# Altium footprint library AP2125N-3P3TRG1.PcbLib: 3 footprints
Each footprint in its own frame and in the unit in brackets; x right, y up, seen from the top. Pads: shape width x height; smd on the part's side, far side on the other; paste and mask are expansions set on the pad; w line width, h text height; cw(c..) or ccw(c..) is an arc to the next point about the centre after c.
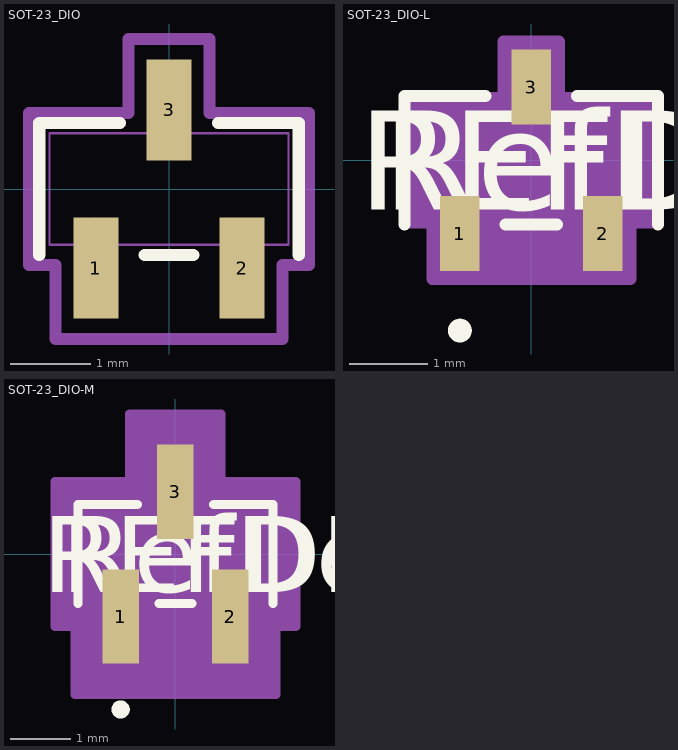
[diagram p0: the footprints below, top view; thin cyan lines are the x and y axes]

## SOT-23_DIO [mil]
pads (3):
  rect 22x50 smd paste+0 mask+0: 1(-36.02,-39) 2(36.02,-39) 3(0,39)
Top Overlay:
  lines w6: -64,-32.5 -64,32.5 -24.1,32.5 ; -11.92,-32.5 11.92,-32.5 ; 24.1,32.5 64,32.5 64,-32.5
Mechanical 13:
  circle w0: c-36.02,-17.5 r3
  lines w1: -59,-27.5 -59,27.5 59,27.5 59,-27.5 -59,-27.5 ; -46.02,-50 -26.02,-50 -26.02,-27.5 -46.02,-27.5 -46.02,-50 ; -10,27.5 -10,50 10,50 10,27.5 -10,27.5 ; 26.02,-50 46.02,-50 46.02,-27.5 26.02,-27.5 26.02,-50
Mechanical 15:
  lines w6: -69,-37.5 -56.02,-37.5 -56.02,-74 56.02,-74 56.02,-37.5 69,-37.5 69,37.5 20,37.5 20,74 -20,74 -20,37.5 -69,37.5 -69,-37.5
3D body "SOT-23_DIO.step": height 45.12, standoff 0, extent -59.02,-50 59.02,50

## SOT-23_DIO-L [mil]
pads (3):
  rect 20x38 smd paste+0 mask+0: 1(-36.02,-37) 2(36.02,-37) 3(0,37)
Top Overlay:
  circle w6: c-36.02,-86 r3
  lines w6: -64,-32.5 -64,32.5 -23.1,32.5 ; -12.92,-32.5 12.92,-32.5 ; 23.1,32.5 64,32.5 64,-32.5
  text "REFDES" at -87.5,-25 h50
  text "RefDes" at -75,-25 h50
Mechanical 13:
  circle w0: c-36.02,-17.5 r3
  lines w1: -59,-27.5 59,-27.5 59,27.5 -59,27.5 -59,-27.5 ; -46.02,-50 -46.02,-27.5 -26.02,-27.5 -26.02,-50 -46.02,-50 ; -10,27.5 10,27.5 10,50 -10,50 -10,27.5 ; 26.02,-50 26.02,-27.5 46.02,-27.5 46.02,-50 26.02,-50
  text "RefDes2" at -87.5,-25 h50
Mechanical 15:
  region: -63,-31.5 -63,31.5 -14,31.5 -14,60 14,60 14,31.5 63,31.5 63,-31.5 50.02,-31.5 50.02,-60 -50.02,-60 -50.02,-31.5
  lines w6: -63,-31.5 -63,31.5 -14,31.5 -14,60 14,60 14,31.5 63,31.5 63,-31.5 50.02,-31.5 50.02,-60 -50.02,-60 -50.02,-31.5 -63,-31.5
3D body "SOT-23_DIO.step": height 45.12, standoff 0, extent -59.02,-50 59.02,50

## SOT-23_DIO-M [mil]
pads (3):
  rect 24x62 smd paste+0 mask+0: 1(-36.02,-41) 2(36.02,-41) 3(0,41)
Top Overlay:
  circle w6: c-36.02,-102 r3
  lines w6: -64,-32.5 -64,32.5 -25.1,32.5 ; -10.92,-32.5 10.92,-32.5 ; 25.1,32.5 64,32.5 64,-32.5
  text "REFDES" at -87.5,-25 h50
  text "RefDes" at -75,-25 h50
Mechanical 13:
  circle w0: c-36.02,-17.5 r3
  lines w1: -59,-27.5 59,-27.5 59,27.5 -59,27.5 -59,-27.5 ; -46.02,-50 -46.02,-27.5 -26.02,-27.5 -26.02,-50 -46.02,-50 ; -10,27.5 10,27.5 10,50 -10,50 -10,27.5 ; 26.02,-50 26.02,-27.5 46.02,-27.5 46.02,-50 26.02,-50
  text "RefDes2" at -87.5,-25 h50
Mechanical 15:
  region: -79,-47.5 -79,47.5 -30,47.5 -30,92 30,92 30,47.5 79,47.5 79,-47.5 66.02,-47.5 66.02,-92 -66.02,-92 -66.02,-47.5
  lines w6: -79,-47.5 -79,47.5 -30,47.5 -30,92 30,92 30,47.5 79,47.5 79,-47.5 66.02,-47.5 66.02,-92 -66.02,-92 -66.02,-47.5 -79,-47.5
3D body "SOT-23_DIO.step": height 45.12, standoff 0, extent -59.02,-50 59.02,50